# Altium footprint library DF40C-40DS.PcbLib: 1 footprints
Each footprint in its own frame and in the unit in brackets; x right, y up, seen from the top. Pads: shape width x height; smd on the part's side, far side on the other; paste and mask are expansions set on the pad; w line width, h text height; cw(c..) or ccw(c..) is an arc to the next point about the centre after c.
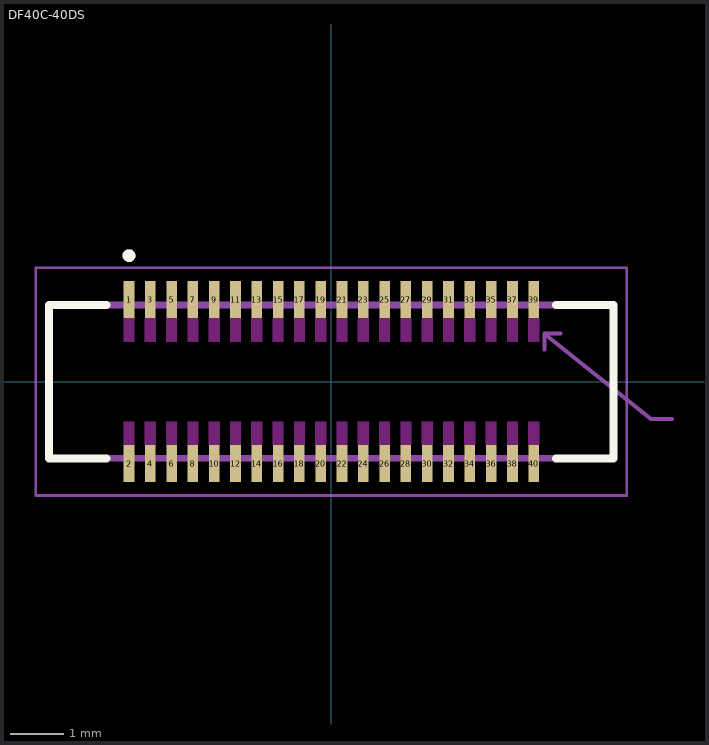
[diagram p0: the footprint, top view; thin cyan lines are the x and y axes]

## DF40C-40DS [mm]
pads (40):
  rect 0.2x0.7 smd paste-1: 1(-3.8,1.54) 2(-3.8,-1.54) 3(-3.4,1.54) 4(-3.4,-1.54) 5(-3,1.54) 6(-3,-1.54) 7(-2.6,1.54) 8(-2.6,-1.54) 9(-2.2,1.54) 10(-2.2,-1.54) 11(-1.8,1.54) 12(-1.8,-1.54) 13(-1.4,1.54) 14(-1.4,-1.54) 15(-1,1.54) 16(-1,-1.54) 17(-0.6,1.54) 18(-0.6,-1.54) 19(-0.2,1.54) 20(-0.2,-1.54) 21(0.2,1.54) 22(0.2,-1.54) 23(0.6,1.54) 24(0.6,-1.54) 25(1,1.54) 26(1,-1.54) 27(1.4,1.54) 28(1.4,-1.54) 29(1.8,1.54) 30(1.8,-1.54) 31(2.2,1.54) 32(2.2,-1.54) 33(2.6,1.54) 34(2.6,-1.54) 35(3,1.54) 36(3,-1.54) 37(3.4,1.54) 38(3.4,-1.54) 39(3.8,1.54) 40(3.8,-1.54)
Top Layer keep-out:
  region: 3.9,0.75 3.7,0.75 3.7,1.19 3.9,1.19
  region: 3.9,-1.19 3.7,-1.19 3.7,-0.75 3.9,-0.75
  region: 3.5,0.75 3.3,0.75 3.3,1.19 3.5,1.19
  region: 3.5,-1.19 3.3,-1.19 3.3,-0.75 3.5,-0.75
  region: 3.1,-1.19 2.9,-1.19 2.9,-0.75 3.1,-0.75
  region: 3.1,0.75 2.9,0.75 2.9,1.19 3.1,1.19
  region: 2.7,-1.19 2.5,-1.19 2.5,-0.75 2.7,-0.75
  region: 2.7,0.75 2.5,0.75 2.5,1.19 2.7,1.19
  region: 2.3,-1.19 2.1,-1.19 2.1,-0.75 2.3,-0.75
  region: 2.3,0.75 2.1,0.75 2.1,1.19 2.3,1.19
  region: 1.9,-1.19 1.7,-1.19 1.7,-0.75 1.9,-0.75
  region: 1.9,0.75 1.7,0.75 1.7,1.19 1.9,1.19
  region: 1.5,-1.19 1.3,-1.19 1.3,-0.75 1.5,-0.75
  region: 1.5,0.75 1.3,0.75 1.3,1.19 1.5,1.19
  region: 1.1,-1.19 0.9,-1.19 0.9,-0.75 1.1,-0.75
  region: 1.1,0.75 0.9,0.75 0.9,1.19 1.1,1.19
  region: 0.7,-1.19 0.5,-1.19 0.5,-0.75 0.7,-0.75
  region: 0.7,0.75 0.5,0.75 0.5,1.19 0.7,1.19
  region: 0.3,-1.19 0.1,-1.19 0.1,-0.75 0.3,-0.75
  region: 0.3,0.75 0.1,0.75 0.1,1.19 0.3,1.19
  region: 0.3,-1.19 0.1,-1.19 0.1,-0.75 0.3,-0.75
  region: 0.3,-1.19 0.1,-1.19 0.1,-0.75 0.3,-0.75
  region: 0.3,0.75 0.1,0.75 0.1,1.19 0.3,1.19
  region: 0.3,0.75 0.1,0.75 0.1,1.19 0.3,1.19
  region: -0.1,-1.19 -0.3,-1.19 -0.3,-0.75 -0.1,-0.75
  region: -0.1,0.75 -0.3,0.75 -0.3,1.19 -0.1,1.19
  region: -0.5,0.75 -0.7,0.75 -0.7,1.19 -0.5,1.19
  region: -0.5,-1.19 -0.7,-1.19 -0.7,-0.75 -0.5,-0.75
  region: -0.9,0.75 -1.1,0.75 -1.1,1.19 -0.9,1.19
  region: -0.9,-1.19 -1.1,-1.19 -1.1,-0.75 -0.9,-0.75
  region: -1.3,0.75 -1.5,0.75 -1.5,1.19 -1.3,1.19
  region: -1.3,-1.19 -1.5,-1.19 -1.5,-0.75 -1.3,-0.75
  region: -1.7,0.75 -1.9,0.75 -1.9,1.19 -1.7,1.19
  region: -1.7,-1.19 -1.9,-1.19 -1.9,-0.75 -1.7,-0.75
  region: -2.1,0.75 -2.3,0.75 -2.3,1.19 -2.1,1.19
  region: -2.1,-1.19 -2.3,-1.19 -2.3,-0.75 -2.1,-0.75
  region: -2.5,0.75 -2.7,0.75 -2.7,1.19 -2.5,1.19
  region: -2.5,-1.19 -2.7,-1.19 -2.7,-0.75 -2.5,-0.75
  region: -2.9,0.75 -3.1,0.75 -3.1,1.19 -2.9,1.19
  region: -2.9,-1.19 -3.1,-1.19 -3.1,-0.75 -2.9,-0.75
  region: -3.3,-1.19 -3.5,-1.19 -3.5,-0.75 -3.3,-0.75
  region: -3.3,0.75 -3.5,0.75 -3.5,1.19 -3.3,1.19
  region: -3.7,-1.19 -3.9,-1.19 -3.9,-0.75 -3.7,-0.75
  region: -3.7,0.75 -3.9,0.75 -3.9,1.19 -3.7,1.19
Top Overlay:
  circle w0.12: c-3.8,2.365 r0.06
  lines w0.15: -4.22,-1.44 -5.3,-1.44 -5.3,1.44 -4.22,1.44 ; 4.22,-1.44 5.3,-1.44 5.3,1.44 4.22,1.44
Top Paste:
  drawing of 40 lines, arcs and shapes, not listed
Mechanical 13:
  circle w0.12: c-3.8,2.365 r0.06
  lines w0.076: 4,0.6 4,0.9 ; 4.3,0.9 4,0.9 ; 6.4,-0.7 6,-0.7 4,0.9
  lines w0.127: -5.3,-1.44 -5.3,1.44 5.3,1.44 5.3,-1.44 -5.3,-1.44
  text "No Pattern area" at 6.66,-1.14 h0.41
  text "other than same circuit" at 6.66,-1.953 h0.41
Mechanical 15:
  lines w0.05: -5.55,-2.14 5.55,-2.14 5.55,2.14 -5.55,2.14 -5.55,-2.14
3D body "df40c-40ds-0_4v_51_.stp": height 1.4, standoff -0.05, extent -5.303,-1.665 5.298,1.715